# EAGLE library part --MERGED_AT91SAM7S64 (library proxmark3_exported_and_modified_components)
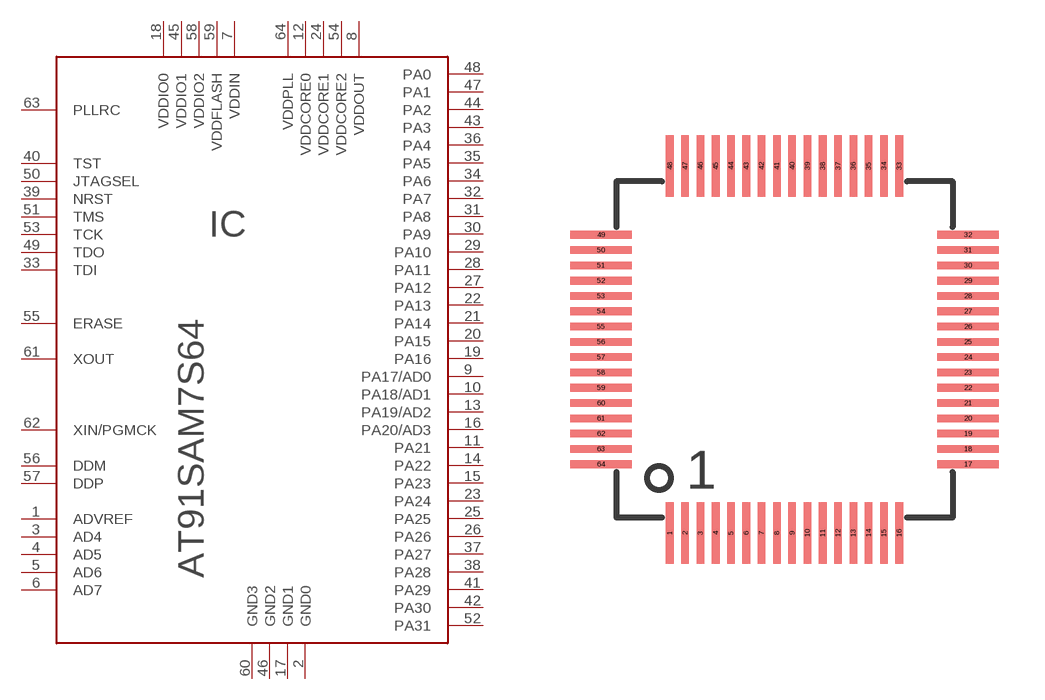
[diagram p1: symbol with the pads of --MERGED_LQFP-64; footprint --MERGED_LQFP-64]

Designator prefix IC

## --MERGED_AT91SAM7S64  [--MERGED_LQFP-64]
1  ADVREF
2  GND0
3  AD4
4  AD5
5  AD6
6  AD7
7  VDDIN
8  VDDOUT
9  PA17/AD0
10  PA18/AD1
11  PA21
12  VDDCORE0
13  PA19/AD2
14  PA22
15  PA23
16  PA20/AD3
17  GND1
18  VDDIO0
19  PA16
20  PA15
21  PA14
22  PA13
23  PA24
24  VDDCORE1
25  PA25
26  PA26
27  PA12
28  PA11
29  PA10
30  PA9
31  PA8
32  PA7
33  TDI
34  PA6
35  PA5
36  PA4
37  PA27
38  PA28
39  NRST
40  TST
41  PA29
42  PA30
43  PA3
44  PA2
45  VDDIO1
46  GND2
47  PA1
48  PA0
49  TDO
50  JTAGSEL
51  TMS
52  PA31
53  TCK
54  VDDCORE2
55  ERASE
56  DDM
57  DDP
58  VDDIO2
59  VDDFLASH
60  GND3
61  XOUT
62  XIN/PGMCK
63  PLLRC
64  VDDPLL

## Footprint --MERGED_LQFP-64 (pad centres in mm)
smd 0.25 x 2: 1 0,0; 2 0.5,0; 3 1,0; 4 1.5,0; 5 2,0; 6 2.5,0; 7 3,0; 8 3.5,0; 9 4,0; 10 4.5,0; 11 5,0; 12 5.5,0; 13 6,0; 14 6.5,0; 15 7,0; 16 7.5,0; 33 7.5,12; 34 7,12; 35 6.5,12; 36 6,12; 37 5.5,12; 38 5,12; 39 4.5,12; 40 4,12; 41 3.5,12; 42 3,12; 43 2.5,12; 44 2,12; 45 1.5,12; 46 1,12; 47 0.5,12; 48 0,12
smd 2 x 0.25: 17 9.75,2.25; 18 9.75,2.75; 19 9.75,3.25; 20 9.75,3.75; 21 9.75,4.25; 22 9.75,4.75; 23 9.75,5.25; 24 9.75,5.75; 25 9.75,6.25; 26 9.75,6.75; 27 9.75,7.25; 28 9.75,7.75; 29 9.75,8.25; 30 9.75,8.75; 31 9.75,9.25; 32 9.75,9.75; 49 -2.25,9.75; 50 -2.25,9.25; 51 -2.25,8.75; 52 -2.25,8.25; 53 -2.25,7.75; 54 -2.25,7.25; 55 -2.25,6.75; 56 -2.25,6.25; 57 -2.25,5.75; 58 -2.25,5.25; 59 -2.25,4.75; 60 -2.25,4.25; 61 -2.25,3.75; 62 -2.25,3.25; 63 -2.25,2.75; 64 -2.25,2.25